# Altium schematic symbol library BSZ110N06NS3 G.SchLib: 1 symbol
Pins are listed as number, name and electrical type; pins without a type are passive.

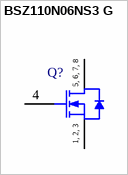
[diagram p0: symbol BSZ110N06NS3 G]

## BSZ110N06NS3 G
designator Q?
N-Channel OptiMOS 3 Power-Transistor, 60 V VDS, 20 A ID, -55 to 150 degC, PG-TSDSON-8-21, Reel, Green; Manufacturer: Infineon; PartNumber: BSZ110N06NS3 G; Green: TRUE; ID (max): 20 A; IDpuls (max): 80 A; Polarity: N; Ptot (max): 50 W; QG: 25 nC; RDS (on) (max): 11 mOhm; Rth: 2.5 K/W; RthJA (max): 60 K/W; VDS (max): 60 V; VGS(th) (max): 4 V; VGS(th) (min): 2 V; DatasheetVersion: Rev. 2.4; PackageVersion: Rev. 01, 03/2007; PackageReference: PG-TSDSON-8-21; PackageDescription: 8-Pin Plastic (Green) Small Outline Non-Leaded Package, 3.3 x 3.3 mm Body, 0.65 mm Pitch; Supplier 1: Digi-Key; Supplier Part Number 1: BSZ110N06NS3GINTR-ND; Supplier 2: Digi-Key; Supplier Part Number 2: BSZ110N06NS3GINCT-ND; Supplier 3: Digi-Key; Supplier Part Number 3: BSZ110N06NS3GINDKR-ND; Supplier 4: Farnell; Supplier Part Number 4: 2212843; Supplier 5: Newark; Supplier Part Number 5: 47W3364; Supplier 6: Mouser; Supplier Part Number 6: 726-BSZ110N06NS3G; Halogen-free: TRUE; Packing: Reel; RthJC (max): 2.5 K/W; Mounting Technology: Surface Mount; ComponentLink1Description: Manufacturer URL; ComponentLink1URL: http://www.infineon.com/; ComponentLink2Description: Datasheet; ComponentLink2URL: http://www.infineon.com/dgdl/BSZ110N06NS3_Rev2.4.pdf?folderId=db3a30431ddc9372011ebafa04517f8b&fileId=db3a30431ddc9372011ebb15d4e8001a; ComponentLink3Description: Package Specification; ComponentLink3URL: http://www.infineon.com/dgdl/BSZ110N06NS3_Rev2.4.pdf?folderId=db3a30431ddc9372011ebafa04517f8b&fileId=db3a30431ddc9372011ebb15d4e8001a
footprint INF-PG-TSDSON-8-21_V (SON, 8-Leads, Body 3.3x3.3mm, Pitch 0.65mm)
pins: 1 SOURCE, 2 SOURCE, 3 SOURCE, 4 GATE, 5 DRAIN, 6 DRAIN, 7 DRAIN, 8 DRAIN
text: 5, 6, 7, 8; 1, 2, 3